# Altium footprint library Конденсаторы-mm.PcbLib: 129 footprints (part 8 of 9)
Each footprint in its own frame and in the unit in brackets; x right, y up, seen from the top. Pads: shape width x height; smd on the part's side, far side on the other; paste and mask are expansions set on the pad; w line width, h text height; cw(c..) or ccw(c..) is an arc to the next point about the centre after c.
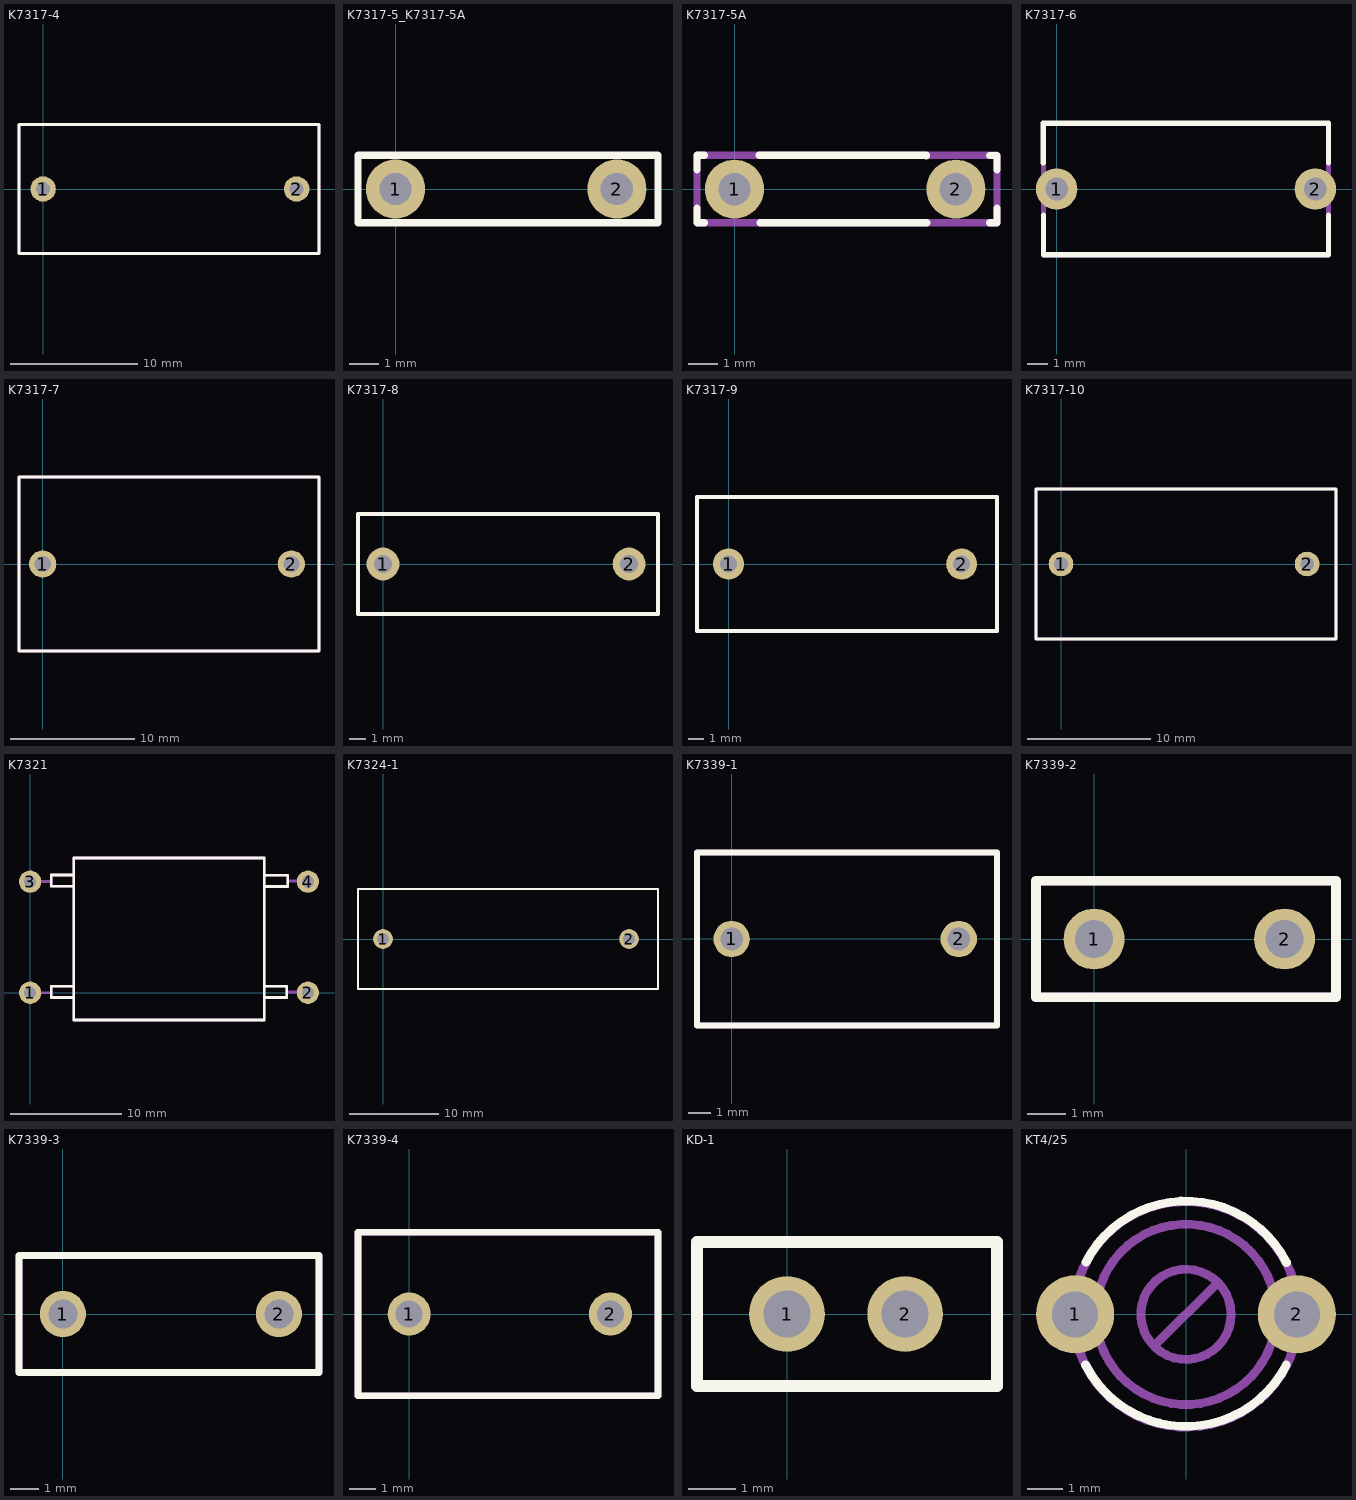
[diagram p7: the footprints below, top view; thin cyan lines are the x and y axes]

## K7317-4 [mm]
pads (2):
  round 2 hole 1.1: 1(0,0) 2(20,0)
Top Overlay:
  lines w0.25: 21.74,-5.09 -1.905,-5.08 -1.905,5.08 21.76,5.09 ; 21.755,-5.08 21.755,5.08
Mechanical 1:
  lines w0.25: 21.74,-5.09 -1.905,-5.08 -1.905,5.08 21.76,5.09 ; 21.755,-5.08 21.755,5.08

## K7317-5_K7317-5A [mm]
pads (2):
  round 2 hole 1.1: 1(0,0) 2(7.5,0)
Top Overlay:
  lines w0.25: -1.27,-1.143 8.89,-1.143 8.89,1.143 -1.27,1.143 -1.27,-1.143

## K7317-5A [mm]
pads (2):
  round 2 hole 1.1: 1(0,0) 2(7.5,0)
Top Overlay:
  lines w0.25: -1.27,-1.14 -1.02,-1.14 ; -1.27,-1.135 -1.27,-0.645 ; -1.27,0.655 -1.27,1.145 -1.27,1.15 -1.02,1.15 ; 0.84,1.145 6.49,1.145 6.49,1.125 ; 0.865,-1.14 6.515,-1.14 ; 8.64,-1.14 8.89,-1.14 ; 8.64,1.14 8.89,1.14 ; 8.89,-1.135 8.89,-0.645 ; 8.89,0.645 8.89,1.135
Mechanical 1:
  lines w0.25: -1.27,-1.143 8.89,-1.143 8.89,1.143 -1.27,1.143 -1.27,-1.143

## K7317-6 [mm]
pads (2):
  round 2 hole 1.1: 1(0,0) 2(12.5,0)
Top Overlay:
  lines w0.25: -0.65,1.27 -0.65,3.18 -0.43,3.18 13.13,3.18 13.13,1.27 ; -0.645,-1.265 -0.645,-3.175 12.915,-3.175 13.135,-3.175 13.135,-1.265
Mechanical 1:
  lines w0.25: 13.1,3.16 -0.635,3.175 -0.635,-3.175 13.13,-3.18 ; 13.135,-3.175 13.135,3.175

## K7317-7 [mm]
pads (2):
  round 2.2 hole 1.3: 1(0,0) 2(20,0)
Top Overlay:
  lines w0.25: -1.905,-6.985 22.225,-6.985 22.225,6.985 -1.905,6.985 -1.905,-6.985
Mechanical 1:
  lines w0.25: -1.905,-6.985 22.225,-6.985 22.225,6.985 -1.905,6.985 -1.905,-6.985

## K7317-8 [mm]
pads (2):
  round 2 hole 1.1: 1(0,0) 2(15,0)
Top Overlay:
  lines w0.25: -1.524,-3.048 16.764,-3.048 16.764,3.048 -1.524,3.048 -1.524,-3.048
Mechanical 1:
  lines w0.25: -1.524,-3.048 16.764,-3.048 16.764,3.048 -1.524,3.048 -1.524,-3.048

## K7317-9 [mm]
pads (2):
  round 2 hole 1.1: 1(0,0) 2(15,0)
Top Overlay:
  lines w0.25: -2.032,-4.318 17.272,-4.318 17.272,4.318 -2.032,4.318 -2.032,-4.318
Mechanical 1:
  lines w0.25: -2.032,-4.318 17.272,-4.318 17.272,4.318 -2.032,4.318 -2.032,-4.318

## K7317-10 [mm]
pads (2):
  round 2 hole 1.1: 1(0,0) 2(20,0)
Top Overlay:
  lines w0.25: -2.032,-6.096 22.352,-6.096 22.352,6.096 -2.032,6.096 -2.032,-6.096
Mechanical 1:
  lines w0.25: -2.032,-6.096 22.352,-6.096 22.352,6.096 -2.032,6.096 -2.032,-6.096

## K7321 [mm]
pads (4):
  round 2 hole 1.1: 1(0,0) 2(25,0) 3(0,10) 4(25,10)
Top Overlay:
  lines w0.25: 3.925,-0.433 1.893,-0.433 1.893,0.583 3.925,0.583 ; 3.925,9.592 1.893,9.592 1.893,10.608 3.925,10.608 ; 21.07,-0.433 23.102,-0.433 23.102,0.583 21.07,0.583 ; 21.15,9.552 23.182,9.552 23.182,10.568 21.15,10.568 ; 3.925,-2.465 21.07,-2.465 21.07,12.14 3.925,12.14 3.925,-2.465
Mechanical 1:
  lines w0.25: 0,0 1.778,0 ; 0,10.025 1.778,10.025 ; 3.925,-0.433 1.893,-0.433 1.893,0.583 3.925,0.583 ; 3.925,9.592 1.893,9.592 1.893,10.608 3.925,10.608 ; 21.07,-0.433 23.102,-0.433 23.102,0.583 21.07,0.583 ; 21.15,9.552 23.182,9.552 23.182,10.568 21.15,10.568 ; 23.102,0.075 24.88,0.075 ; 23.182,10.06 24.96,10.06 ; 3.925,-2.465 21.07,-2.465 21.07,12.14 3.925,12.14 3.925,-2.465

## K7324-1 [mm]
pads (2):
  round 2.2 hole 1.3: 1(0,0) 2(27.5,0)
Top Overlay:
  lines w0.25: -2.794,-5.588 30.734,-5.588 30.734,5.588 -2.794,5.588 -2.794,-5.588
Mechanical 1:
  lines w0.25: -2.794,-5.588 30.734,-5.588 30.734,5.588 -2.794,5.588 -2.794,-5.588

## K7339-1 [mm]
pads (2):
  round 1.6 hole 1: 1(0,0) 2(10,0)
Top Overlay:
  lines w0.25: -1.524,-3.81 11.684,-3.81 11.684,3.81 -1.524,3.81 -1.524,-3.81
Mechanical 1:
  lines w0.25: -1.524,-3.81 11.684,-3.81 11.684,3.81 -1.524,3.81 -1.524,-3.81

## K7339-2 [mm]
pads (2):
  round 1.6 hole 1: 1(0,0) 2(5,0)
Top Overlay:
  lines w0.25: -1.524,-1.524 6.35,-1.524 6.35,1.524 -1.524,1.524 -1.524,-1.524
Mechanical 1:
  lines w0.25: -1.524,-1.524 6.35,-1.524 6.35,1.524 -1.524,1.524 -1.524,-1.524

## K7339-3 [mm]
pads (2):
  round 1.6 hole 1: 1(0,0) 2(7.5,0)
Top Overlay:
  lines w0.25: -1.524,-2.032 8.89,-2.032 8.89,2.032 -1.524,2.032 -1.524,-2.032
Mechanical 1:
  lines w0.25: -1.524,-2.032 8.89,-2.032 8.89,2.032 -1.524,2.032 -1.524,-2.032

## K7339-4 [mm]
pads (2):
  round 1.6 hole 1: 1(0,0) 2(7.5,0)
Top Overlay:
  lines w0.25: -1.905,-3.048 9.271,-3.048 9.271,3.048 -1.905,3.048 -1.905,-3.048
Mechanical 1:
  lines w0.25: -1.905,-3.048 9.271,-3.048 9.271,3.048 -1.905,3.048 -1.905,-3.048

## KD-1 [mm]
pads (2):
  round 1.6 hole 1: 1(0,0) 2(2.5,0)
Top Overlay:
  lines w0.25: -1.905,-1.524 4.445,-1.524 4.445,1.524 4.191,1.524 -1.905,1.524 -1.905,-1.524
Mechanical 1:
  lines w0.25: -1.905,-1.524 4.445,-1.524 4.445,1.524 4.191,1.524 -1.905,1.524 -1.905,-1.524

## KT4/25 [mm]
pads (2):
  round 2.2 hole 1.3: 1(-3.125,0) 2(3.125,0)
Top Overlay:
  lines w0.25: -2.829,-1.422 ccw(c0,0.019) 2.824,-1.432 ; -2.819,1.467 cw(c0.005,0.016) 2.834,1.457
Mechanical 1:
  circle w0.254: c0,0 r3.175
  circle w0.25: c0,0 r2.54
  circle w0.25: c0,0 r1.27
  lines w0.25: -0.889,-0.889 0.889,0.889